# Altium schematic symbol library BJTs.SchLib: 2 symbols
Pins are listed as number, name and electrical type; pins without a type are passive.

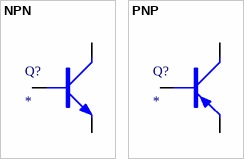
[diagram p0: symbols NPN to PNP]

## NPN
designator Q?
NPN三极管
pins: B, C, E
1 alternate drawing of the same symbol

## PNP
designator Q?
PNP三极管
pins: B, C, E